# Altium footprint library 802RVS020005R-A.PcbLib: 1 footprints
Each footprint in its own frame and in the unit in brackets; x right, y up, seen from the top. Pads: shape width x height; smd on the part's side, far side on the other; paste and mask are expansions set on the pad; w line width, h text height; cw(c..) or ccw(c..) is an arc to the next point about the centre after c.
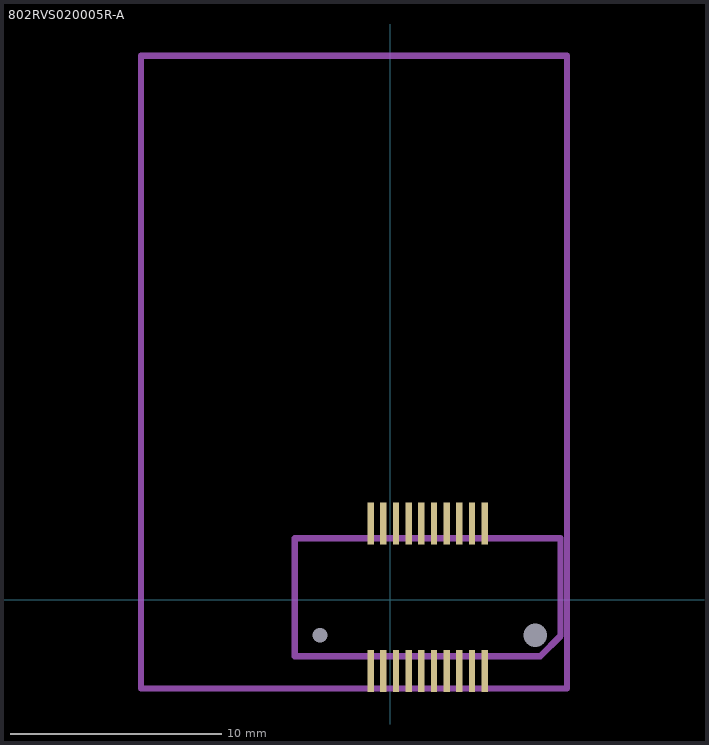
[diagram p0: the footprint, top view; thin cyan lines are the x and y axes]

## 802RVS020005R-A [mm]
pads (22):
  rect 0.3x2 smd: 1(4.478,-3.373) 2(3.878,-3.373) 3(3.278,-3.373) 4(2.678,-3.373) 5(2.078,-3.373) 6(1.478,-3.373) 7(0.878,-3.373) 8(0.278,-3.373) 9(-0.322,-3.373) 10(-0.922,-3.373) 11(4.478,3.627) 12(3.878,3.627) 13(3.278,3.627) 14(2.678,3.627) 15(2.078,3.627) 16(1.478,3.627) 17(0.878,3.627) 18(0.278,3.627) 19(-0.322,3.627) 20(-0.922,3.627)
  round 0 hole 1.1 unplated paste-2 mask+0.6: MH1(6.878,-1.673)
  round 0 hole 0.7 unplated paste-2 mask+0.4: MH2(-3.322,-1.673)
Mechanical 1:
  text ".Designator" at -1.397,0.508 h1.5
Mechanical 13:
  lines w0.3: -11.811,-4.2 -11.811,25.8 8.382,25.8 8.382,-4.2 -11.811,-4.2 ; -4.522,-2.673 7.112,-2.673 8.078,-1.707 8.078,2.927 8.064,2.927 -4.522,2.927 -4.522,-2.673
3D body: height 2.25, standoff -0.9, extent -4.522,-3.381 8.078,3.619
3D body: height 6.28, standoff 0.14, extent -11.651,-4.191 8.349,25.809